# EAGLE library part ST1S10 (library st-microelectronics)
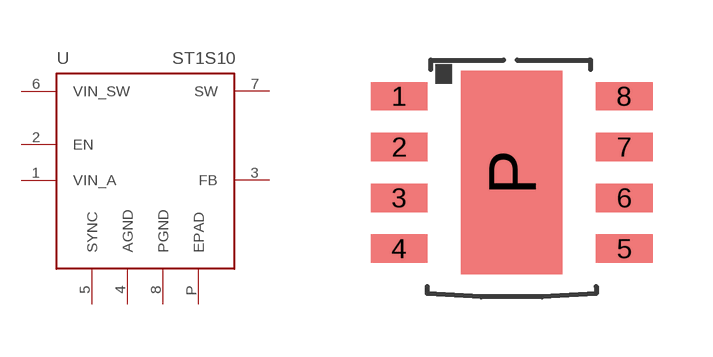
[diagram p41: symbol with the pads of POWER-SO8; footprint POWER-SO8]

Designator prefix -

## ST1S10  [POWER-SO8]
1  VIN_A  pwr
2  EN  pwr
3  FB  pwr
4  AGND  pwr
5  SYNC  pwr
6  VIN_SW  pwr
7  SW  pwr
8  PGND  pwr
P  EPAD  pwr

## Footprint POWER-SO8 (pad centres in mm)
smd 1.422 x 0.711: 1 -2.18,4.445; 2 -2.18,3.175; 3 -2.18,1.905; 4 -2.18,0.635; 5 3.45,0.635; 6 3.45,1.905; 7 3.45,3.175; 8 3.45,4.445
smd 2.54 x 5.08: P 0.635,2.54